# Altium schematic symbol library DRV8834PWP.SCHLIB: 1 symbol
Pins are listed as number, name and electrical type; pins without a type are passive.

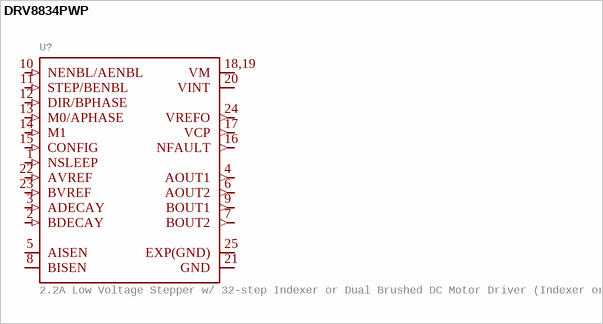
[diagram p0: symbol DRV8834PWP]

## DRV8834PWP
designator U?, comment 2.2A Low Voltage Stepper w/ 32-step Indexer or Dual Brushed DC Motor Driver (Indexer or PH/EN Ctrl) 24-HTSSOP -40 to 85 Check availability
GateName_1: G$1; SymbolName_1: DRV8834PWP; MF: Texas Instruments; LibraryName: DRV8834PWP; DeviceSetName: DRV8834PWP; Package: SOP65P640X120-25N; Package: HTSSOP-24 Texas Instruments; Price: None; MP: DRV8834PWP; Availability: In Stock; Purchase-URL: https://pricing.snapeda.com/search?q=DRV8834PWP&ref=eda
footprint SOP65P640X120-25N
pins: 1 NSLEEP (in), 2 BDECAY (in), 3 ADECAY (in), 4 AOUT1 (out), 5 AISEN (io), 6 AOUT2 (out), 7 BOUT2 (out), 8 BISEN (io), 9 BOUT1 (out), 10 NENBL/AENBL (in), 11 STEP/BENBL (in), 12 DIR/BPHASE (in), 13 M0/APHASE (in), 14 M1 (in), 15 CONFIG (in), 16 NFAULT (out), 17 VCP (out), 18,19 VM (power), 20 VINT (power), 21 GND (power), 22 AVREF (in), 23 BVREF (in), 24 VREFO (out), 25 EXP(GND) (power)